# EAGLE library part HMC5843 (library pixhawk2-updated)
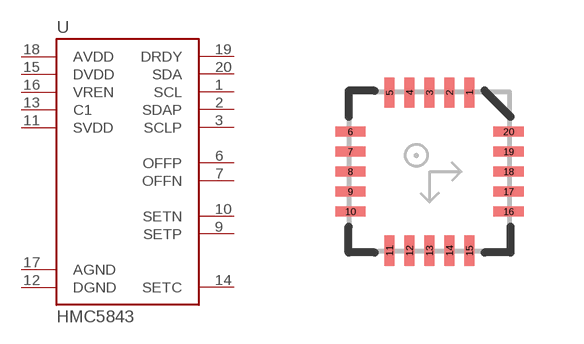
[diagram p13: symbol with the pads of LPCC20; footprint LPCC20]

Designator prefix U

## HMC5843  [LPCC20]
1  SCL
2  SDAP
3  SCLP
6  OFFP
7  OFFN
9  SETP
10  SETN
11  SVDD
12  DGND
13  C1
14  SETC
15  DVDD
16  VREN
17  AGND
18  AVDD
19  DRDY
20  SDA

## Footprint LPCC20 (pad centres in mm)
smd 0.25 x 0.76: 1 1,1.98; 2 0.5,1.98; 3 0,1.98; 4 -0.5,1.98; 5 -1,1.98; 11 -1,-1.98; 12 -0.5,-1.98; 13 0,-1.98; 14 0.5,-1.98; 15 1,-1.98
smd 0.76 x 0.25: 6 -1.98,1; 7 -1.98,0.5; 8 -1.98,0; 9 -1.98,-0.5; 10 -1.98,-1; 16 1.98,-1; 17 1.98,-0.5; 18 1.98,0; 19 1.98,0.5; 20 1.98,1